# EAGLE library part GPS_C_H_FLE (library SUCHAI)
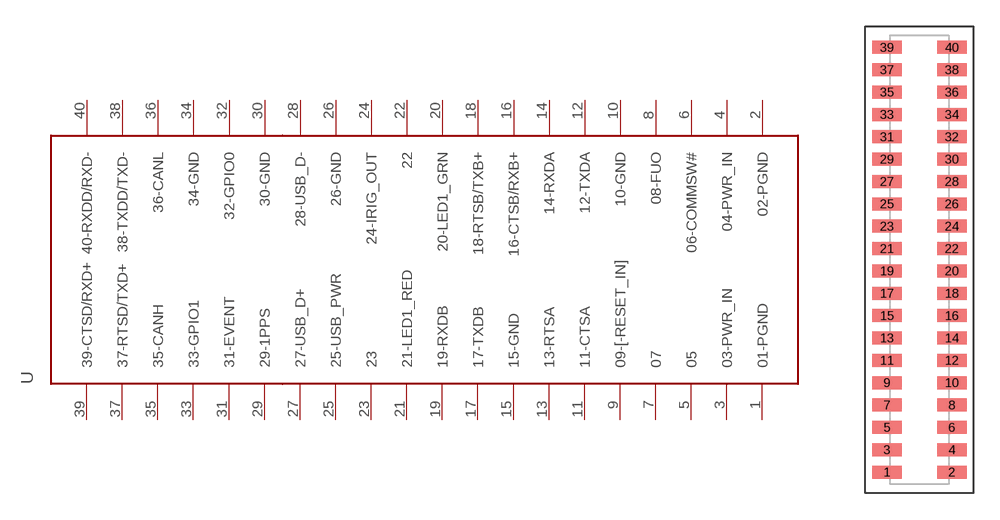
[diagram p6: symbol with the pads of GPS_C_H_FLE; footprint GPS_C_H_FLE]

Designator prefix -

## GPS_C_H_FLE  [GPS_C_H_FLE]
1  01-PGND
2  02-PGND
3  03-PWR_IN
4  04-PWR_IN
5  05
6  06-COMMSW#
7  07
8  08-FUO
9  09-[-RESET_IN]
10  10-GND
11  11-CTSA
12  12-TXDA
13  13-RTSA
14  14-RXDA
15  15-GND
16  16-CTSB/RXB+
17  17-TXDB
18  18-RTSB/TXB+
19  19-RXDB
20  20-LED1_GRN
21  21-LED1_RED
22  22
23  23
24  24-IRIG_OUT
25  25-USB_PWR
26  26-GND
27  27-USB_D+
28  28-USB_D-
29  29-1PPS
30  30-GND
31  31-EVENT
32  32-GPIO0
33  33-GPIO1
34  34-GND
35  35-CANH
36  36-CANL
37  37-RTSD/TXD+
38  38-TXDD/TXD-
39  39-CTSD/RXD+
40  40-RXDD/RXD-

## Footprint GPS_C_H_FLE (pad centres in mm)
Device pattern for Javad's TR-G2 GPS This device includes Samtec's FLE-120-XX-DV connector and references for mounting holes.
smd 1.676 x 0.737: 1 48.069,7.874; 2 51.752,7.874; 3 48.069,9.144; 4 51.752,9.144; 5 48.069,10.414; 6 51.752,10.414; 7 48.069,11.684; 8 51.752,11.684; 9 48.069,12.954; 10 51.752,12.954; 11 48.069,14.224; 12 51.752,14.224; 13 48.069,15.494; 14 51.752,15.494; 15 48.069,16.764; 16 51.752,16.764; 17 48.069,18.034; 18 51.752,18.034; 19 48.069,19.304; 20 51.752,19.304; 21 48.069,20.574; 22 51.752,20.574; 23 48.069,21.844; 24 51.752,21.844; 25 48.069,23.114; 26 51.752,23.114; 27 48.069,24.384; 28 51.752,24.384; 29 48.069,25.654; 30 51.752,25.654; 31 48.069,26.924; 32 51.752,26.924; 33 48.069,28.194; 34 51.752,28.194; 35 48.069,29.464; 36 51.752,29.464; 37 48.069,30.734; 38 51.752,30.734; 39 48.069,32.004; 40 51.752,32.004